# Altium schematic symbol library 4677.SchLib: 1 symbol
Pins are listed as number, name and electrical type; pins without a type are passive.

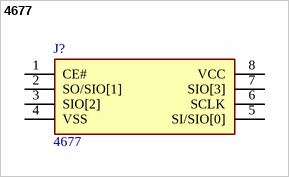
[diagram p0: symbol 4677]

## 4677
designator J?
Adafruit Accessories Generic 64 Mbit Serial Pseudo SRAM - 3.3V 133 MHz; Geometry.Height: 1.75mm; Mouser Part Number: 485-4677; Mouser Price/Stock: https://www.mouser.co.uk/ProductDetail/Adafruit/4677?qs=DPoM0jnrROUZDCYEDSsMew%3D%3D; Manufacturer_Name: Adafruit; Manufacturer_Part_Number: 4677; Datasheet Link: https://www.espressif.com/sites/default/files/documentation/esp-psram64_esp-psram64h_datasheet_en.pdf
footprint SOIC127P600X175-8N
pins: 1 CE#, 2 SO/SIO[1], 3 SIO[2], 4 VSS, 5 SI/SIO[0], 6 SCLK, 7 SIO[3], 8 VCC